# Altium schematic symbol library module.SchLib: 2 symbols
Pins are listed as number, name and electrical type; pins without a type are passive.

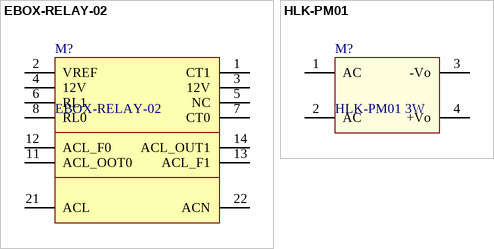
[diagram p0: symbols EBOX-RELAY-02 to HLK-PM01]

## EBOX-RELAY-02
designator M?
footprint EBOX-RELAY-02
pins: 1 CT1, 2 VREF, 3 12V, 4 12V, 5 NC, 6 RL1, 7 CT0, 8 RL0, 11 ACL_OOT0, 12 ACL_F0, 13 ACL_F1, 14 ACL_OUT1, 21 ACL, 22 ACN

## HLK-PM01
designator M?, comment HLK-PM01 3W
Header, 1-Pin
footprint HLK-PM01
pins: 1 AC, 2 AC, 3 -Vo, 4 +Vo